# Altium schematic symbol library WE-HCIA.SchLib: 28 symbols
Pins are listed as number, name and electrical type; pins without a type are passive.

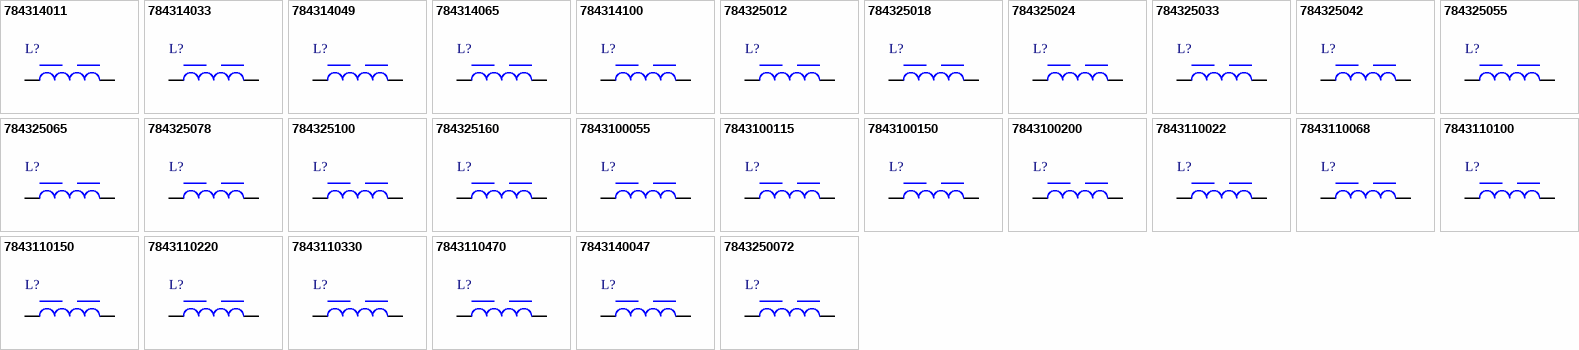
[diagram p0: symbols 784314011 to 7843250072]

## 784314011
designator L?, comment 1.1μH  (value not drawn)
WE-HCIA Flat Wire High Current Inductor, SMT, size 7050, 1.1μH, 19.6A, 3.47mΩ; Manufacturer Part Number: 784314011; Manufacturer: Wurth Elektronik; Case/Size Code: 7050; Inductance Tolerance: ±20%; Self Resonant Frequency: 147MHz; Saturation Current @ 30%: 15.2A; Category: Power Inductors; Match Code: WE-HCIA; ComponentLink1Description: Website Link; ComponentLink1URL: https://www.we-online.com/redexpert/article/784314011?ad; ComponentLink2Description: Datasheet Link; ComponentLink2URL: https://www.we-online.com/redexpert/spec/784314011?ad; Mount: Surface Mount; Min Operating Temperature: -55°C; Max Operating Temperature: 150°C; Packaging: Tape and Reel; Length: 6.9mm; Width: 6.9mm; Height: 4.8mm; Automotive: Yes; DC Resistance Max: 3.47mΩ; Inductance: 1.1μH; Performance Rated Current: 19.6A
footprint WE-HCIA_7050
simulation model 7050_784314011_1.1u
pins: 1, 2

## 784314033
designator L?, comment 3.3μH  (value not drawn)
WE-HCIA Flat Wire High Current Inductor, SMT, size 7050, 3.3μH, 10.9A, 9.62mΩ; Manufacturer Part Number: 784314033; Manufacturer: Wurth Elektronik; Case/Size Code: 7050; Inductance Tolerance: ±20%; Self Resonant Frequency: 68MHz; Saturation Current @ 30%: 8.7A; Category: Power Inductors; Match Code: WE-HCIA; ComponentLink1Description: Website Link; ComponentLink1URL: https://www.we-online.com/redexpert/article/784314033?ad; ComponentLink2Description: Datasheet Link; ComponentLink2URL: https://www.we-online.com/redexpert/spec/784314033?ad; Mount: Surface Mount; Min Operating Temperature: -55°C; Max Operating Temperature: 150°C; Packaging: Tape and Reel; Length: 6.9mm; Width: 6.9mm; Height: 4.8mm; Automotive: Yes; DC Resistance Max: 9.62mΩ; Inductance: 3.3μH; Performance Rated Current: 10.9A
footprint WE-HCIA_7050
simulation model 7050_784314033_3.3u
pins: 1, 2

## 784314049
designator L?, comment 4.9μH  (value not drawn)
WE-HCIA Flat Wire High Current Inductor, SMT, size 7050, 4.9μH, 8.3A, 15.85mΩ; Manufacturer Part Number: 784314049; Manufacturer: Wurth Elektronik; Case/Size Code: 7050; Inductance Tolerance: ±20%; Self Resonant Frequency: 64MHz; Saturation Current @ 30%: 7.2A; Category: Power Inductors; Match Code: WE-HCIA; ComponentLink1Description: Website Link; ComponentLink1URL: https://www.we-online.com/redexpert/article/784314049?ad; ComponentLink2Description: Datasheet Link; ComponentLink2URL: https://www.we-online.com/redexpert/spec/784314049?ad; Mount: Surface Mount; Min Operating Temperature: -55°C; Max Operating Temperature: 150°C; Packaging: Tape and Reel; Length: 6.9mm; Width: 6.9mm; Height: 4.8mm; Automotive: Yes; DC Resistance Max: 15.85mΩ; Inductance: 4.9μH; Performance Rated Current: 8.3A
footprint WE-HCIA_7050
simulation model 7050_784314049_4.9u
pins: 1, 2

## 784314065
designator L?, comment 6.5μH  (value not drawn)
WE-HCIA Flat Wire High Current Inductor, SMT, size 7050, 6.5μH, 6.6A, 23.65mΩ; Manufacturer Part Number: 784314065; Manufacturer: Wurth Elektronik; Case/Size Code: 7050; Inductance Tolerance: ±20%; Self Resonant Frequency: 50MHz; Saturation Current @ 30%: 6.4A; Category: Power Inductors; Match Code: WE-HCIA; ComponentLink1Description: Website Link; ComponentLink1URL: https://www.we-online.com/redexpert/article/784314065?ad; ComponentLink2Description: Datasheet Link; ComponentLink2URL: https://www.we-online.com/redexpert/spec/784314065?ad; Mount: Surface Mount; Min Operating Temperature: -55°C; Max Operating Temperature: 150°C; Packaging: Tape and Reel; Length: 6.9mm; Width: 6.9mm; Height: 4.8mm; Automotive: Yes; DC Resistance Max: 23.65mΩ; Inductance: 6.5μH; Performance Rated Current: 6.6A
footprint WE-HCIA_7050
simulation model 7050_784314065_6.5u
pins: 1, 2

## 784314100
designator L?, comment 10μH  (value not drawn)
WE-HCIA Flat Wire High Current Inductor, SMT, size 7050, 10μH, 5.4A, 33.72mΩ; Manufacturer Part Number: 784314100; Manufacturer: Wurth Elektronik; Case/Size Code: 7050; Inductance Tolerance: ±20%; Self Resonant Frequency: 41MHz; Saturation Current @ 30%: 4.85A; Category: Power Inductors; Match Code: WE-HCIA; ComponentLink1Description: Website Link; ComponentLink1URL: https://www.we-online.com/redexpert/article/784314100?ad; ComponentLink2Description: Datasheet Link; ComponentLink2URL: https://www.we-online.com/redexpert/spec/784314100?ad; Mount: Surface Mount; Min Operating Temperature: -55°C; Max Operating Temperature: 150°C; Packaging: Tape and Reel; Length: 6.9mm; Width: 6.9mm; Height: 4.8mm; Automotive: Yes; DC Resistance Max: 33.72mΩ; Inductance: 10μH; Performance Rated Current: 5.4A
footprint WE-HCIA_7050
simulation model 7050_784314100_10u
pins: 1, 2

## 784325012
designator L?, comment 1.2μH  (value not drawn)
WE-HCIA Flat Wire High Current Inductor, SMT, size 1050, 1.2μH, 32.6A, 2.04mΩ; Manufacturer Part Number: 784325012; Manufacturer: Wurth Elektronik; Case/Size Code: 1050; Inductance Tolerance: ±20%; Self Resonant Frequency: 76MHz; Saturation Current @ 30%: 30A; Category: Power Inductors; Match Code: WE-HCIA; ComponentLink1Description: Website Link; ComponentLink1URL: https://www.we-online.com/redexpert/article/784325012?ad; ComponentLink2Description: Datasheet Link; ComponentLink2URL: https://www.we-online.com/redexpert/spec/784325012?ad; Mount: Surface Mount; Min Operating Temperature: -55°C; Max Operating Temperature: 150°C; Packaging: Tape and Reel; Length: 10.2mm; Width: 10.2mm; Height: 4.7mm; Automotive: Yes; DC Resistance Max: 2.04mΩ; Inductance: 1.2μH; Performance Rated Current: 32.6A
footprint WE-HCIA_1050
simulation model 1050_784325012_1.2u
pins: 1, 2

## 784325018
designator L?, comment 1.8μH  (value not drawn)
WE-HCIA Flat Wire High Current Inductor, SMT, size 1050, 1.8μH, 22.1A, 3.3mΩ; Manufacturer Part Number: 784325018; Manufacturer: Wurth Elektronik; Case/Size Code: 1050; Inductance Tolerance: ±20%; Self Resonant Frequency: 60MHz; Saturation Current @ 30%: 25A; Category: Power Inductors; Match Code: WE-HCIA; ComponentLink1Description: Website Link; ComponentLink1URL: https://www.we-online.com/redexpert/article/784325018?ad; ComponentLink2Description: Datasheet Link; ComponentLink2URL: https://www.we-online.com/redexpert/spec/784325018?ad; Mount: Surface Mount; Min Operating Temperature: -55°C; Max Operating Temperature: 150°C; Packaging: Tape and Reel; Length: 10.2mm; Width: 10.2mm; Height: 4.7mm; Automotive: Yes; DC Resistance Max: 3.3mΩ; Inductance: 1.8μH; Performance Rated Current: 22.1A
footprint WE-HCIA_1050
simulation model 1050_784325018_1.8u
pins: 1, 2

## 784325024
designator L?, comment 2.4μH  (value not drawn)
WE-HCIA Flat Wire High Current Inductor, SMT, size 1050, 2.4μH, 18.7A, 5.4mΩ; Manufacturer Part Number: 784325024; Manufacturer: Wurth Elektronik; Case/Size Code: 1050; Inductance Tolerance: ±20%; Self Resonant Frequency: 55MHz; Saturation Current @ 30%: 20.7A; Category: Power Inductors; Match Code: WE-HCIA; ComponentLink1Description: Website Link; ComponentLink1URL: https://www.we-online.com/redexpert/article/784325024?ad; ComponentLink2Description: Datasheet Link; ComponentLink2URL: https://www.we-online.com/redexpert/spec/784325024?ad; Mount: Surface Mount; Min Operating Temperature: -55°C; Max Operating Temperature: 150°C; Packaging: Tape and Reel; Length: 10.2mm; Width: 10.2mm; Height: 4.7mm; Automotive: Yes; DC Resistance Max: 5.4mΩ; Inductance: 2.4μH; Performance Rated Current: 18.7A
footprint WE-HCIA_1050
simulation model 1050_784325024_2.4u
pins: 1, 2

## 784325033
designator L?, comment 3.3μH  (value not drawn)
WE-HCIA Flat Wire High Current Inductor, SMT, size 1050, 3.3μH, 16.6A, 5.75mΩ; Manufacturer Part Number: 784325033; Manufacturer: Wurth Elektronik; Case/Size Code: 1050; Inductance Tolerance: ±20%; Self Resonant Frequency: 41MHz; Saturation Current @ 30%: 18A; Category: Power Inductors; Match Code: WE-HCIA; ComponentLink1Description: Website Link; ComponentLink1URL: https://www.we-online.com/redexpert/article/784325033?ad; ComponentLink2Description: Datasheet Link; ComponentLink2URL: https://www.we-online.com/redexpert/spec/784325033?ad; Mount: Surface Mount; Min Operating Temperature: -55°C; Max Operating Temperature: 150°C; Packaging: Tape and Reel; Length: 10.2mm; Width: 10.2mm; Height: 4.7mm; Automotive: Yes; DC Resistance Max: 5.75mΩ; Inductance: 3.3μH; Performance Rated Current: 16.6A
footprint WE-HCIA_1050
simulation model 1050_784325033_3.3u
pins: 1, 2

## 784325042
designator L?, comment 4.2μH  (value not drawn)
WE-HCIA Flat Wire High Current Inductor, SMT, size 1050, 4.2μH, 15.4A, 7.8mΩ; Manufacturer Part Number: 784325042; Manufacturer: Wurth Elektronik; Case/Size Code: 1050; Inductance Tolerance: ±20%; Self Resonant Frequency: 36MHz; Saturation Current @ 30%: 15.7A; Category: Power Inductors; Match Code: WE-HCIA; ComponentLink1Description: Website Link; ComponentLink1URL: https://www.we-online.com/redexpert/article/784325042?ad; ComponentLink2Description: Datasheet Link; ComponentLink2URL: https://www.we-online.com/redexpert/spec/784325042?ad; Mount: Surface Mount; Min Operating Temperature: -55°C; Max Operating Temperature: 150°C; Packaging: Tape and Reel; Length: 10.2mm; Width: 10.2mm; Height: 4.7mm; Automotive: Yes; DC Resistance Max: 7.8mΩ; Inductance: 4.2μH; Performance Rated Current: 15.4A
footprint WE-HCIA_1050
simulation model 1050_784325042_4.2u
pins: 1, 2

## 784325055
designator L?, comment 5.2μH  (value not drawn)
WE-HCIA Flat Wire High Current Inductor, SMT, size 1050, 5.2μH, 12.1A, 9.45mΩ; Manufacturer Part Number: 784325055; Manufacturer: Wurth Elektronik; Case/Size Code: 1050; Inductance Tolerance: ±20%; Self Resonant Frequency: 31MHz; Saturation Current @ 30%: 14.3A; Category: Power Inductors; Match Code: WE-HCIA; ComponentLink1Description: Website Link; ComponentLink1URL: https://www.we-online.com/redexpert/article/784325055?ad; ComponentLink2Description: Datasheet Link; ComponentLink2URL: https://www.we-online.com/redexpert/spec/784325055?ad; Mount: Surface Mount; Min Operating Temperature: -55°C; Max Operating Temperature: 150°C; Packaging: Tape and Reel; Length: 10.2mm; Width: 10.2mm; Height: 4.7mm; Automotive: Yes; DC Resistance Max: 9.45mΩ; Inductance: 5.2μH; Performance Rated Current: 12.1A
footprint WE-HCIA_1050
simulation model 1050_784325055_5.2u
pins: 1, 2

## 784325065
designator L?, comment 6.5μH  (value not drawn)
WE-HCIA Flat Wire High Current Inductor, SMT, size 1050, 6.5μH, 11A, 11.55mΩ; Manufacturer Part Number: 784325065; Manufacturer: Wurth Elektronik; Case/Size Code: 1050; Inductance Tolerance: ±20%; Self Resonant Frequency: 27MHz; Saturation Current @ 30%: 13A; Category: Power Inductors; Match Code: WE-HCIA; ComponentLink1Description: Website Link; ComponentLink1URL: https://www.we-online.com/redexpert/article/784325065?ad; ComponentLink2Description: Datasheet Link; ComponentLink2URL: https://www.we-online.com/redexpert/spec/784325065?ad; Mount: Surface Mount; Min Operating Temperature: -55°C; Max Operating Temperature: 150°C; Packaging: Tape and Reel; Length: 10.2mm; Width: 10.2mm; Height: 4.7mm; Automotive: Yes; DC Resistance Max: 11.55mΩ; Inductance: 6.5μH; Performance Rated Current: 11A
footprint WE-HCIA_1050
simulation model 1050_784325065_6.5u
pins: 1, 2

## 784325078
designator L?, comment 7.8μH  (value not drawn)
WE-HCIA Flat Wire High Current Inductor, SMT, size 1050, 7.8μH, 10.7A, 14.4mΩ; Manufacturer Part Number: 784325078; Manufacturer: Wurth Elektronik; Case/Size Code: 1050; Inductance Tolerance: ±20%; Self Resonant Frequency: 23MHz; Saturation Current @ 30%: 12A; Category: Power Inductors; Match Code: WE-HCIA; ComponentLink1Description: Website Link; ComponentLink1URL: https://www.we-online.com/redexpert/article/784325078?ad; ComponentLink2Description: Datasheet Link; ComponentLink2URL: https://www.we-online.com/redexpert/spec/784325078?ad; Mount: Surface Mount; Min Operating Temperature: -55°C; Max Operating Temperature: 150°C; Packaging: Tape and Reel; Length: 10.2mm; Width: 10.2mm; Height: 4.7mm; Automotive: Yes; DC Resistance Max: 14.4mΩ; Inductance: 7.8μH; Performance Rated Current: 10.7A
footprint WE-HCIA_1050
simulation model 1050_784325078_7.8u
pins: 1, 2

## 784325100
designator L?, comment 10μH  (value not drawn)
WE-HCIA Flat Wire High Current Inductor, SMT, size 1050, 10μH, 9.6A, 23.1mΩ; Manufacturer Part Number: 784325100; Manufacturer: Wurth Elektronik; Case/Size Code: 1050; Inductance Tolerance: ±20%; Self Resonant Frequency: 21MHz; Saturation Current @ 30%: 10.3A; Category: Power Inductors; Match Code: WE-HCIA; ComponentLink1Description: Website Link; ComponentLink1URL: https://www.we-online.com/redexpert/article/784325100?ad; ComponentLink2Description: Datasheet Link; ComponentLink2URL: https://www.we-online.com/redexpert/spec/784325100?ad; Mount: Surface Mount; Min Operating Temperature: -55°C; Max Operating Temperature: 150°C; Packaging: Tape and Reel; Length: 10.2mm; Width: 10.2mm; Height: 4.7mm; Automotive: Yes; DC Resistance Max: 23.1mΩ; Inductance: 10μH; Performance Rated Current: 9.6A
footprint WE-HCIA_1050
simulation model 1050_784325100_10u
pins: 1, 2

## 784325160
designator L?, comment 16.7μH  (value not drawn)
WE-HCIA Flat Wire High Current Inductor, SMT, size 1050, 16.7μH, 6.3A, 38mΩ; Manufacturer Part Number: 784325160; Manufacturer: Wurth Elektronik; Case/Size Code: 1050; Inductance Tolerance: ±20%; Self Resonant Frequency: 16MHz; Saturation Current @ 30%: 7.8A; Category: Power Inductors; Match Code: WE-HCIA; ComponentLink1Description: Website Link; ComponentLink1URL: https://www.we-online.com/redexpert/article/784325160?ad; ComponentLink2Description: Datasheet Link; ComponentLink2URL: https://www.we-online.com/redexpert/spec/784325160?ad; Mount: Surface Mount; Min Operating Temperature: -55°C; Max Operating Temperature: 150°C; Packaging: Tape and Reel; Length: 10.2mm; Width: 10.2mm; Height: 4.7mm; Automotive: Yes; DC Resistance Max: 38mΩ; Inductance: 16.7μH; Performance Rated Current: 6.3A
footprint WE-HCIA_1050
simulation model 1050_784325160_16.7u
pins: 1, 2

## 7843100055
designator L?, comment 0.52μH  (value not drawn)
WE-HCIA Flat Wire High Current Inductor, SMT, size 7030, 0.52μH, 19.2A, 4.07mΩ; Manufacturer Part Number: 7843100055; Manufacturer: Wurth Elektronik; Case/Size Code: 7030; Inductance Tolerance: ±20%; Self Resonant Frequency: 189MHz; Saturation Current @ 30%: 27.7A; Category: Power Inductors; Match Code: WE-HCIA; ComponentLink1Description: Website Link; ComponentLink1URL: https://www.we-online.com/redexpert/article/7843100055?ad; ComponentLink2Description: Datasheet Link; ComponentLink2URL: https://www.we-online.com/redexpert/spec/7843100055?ad; Mount: Surface Mount; Min Operating Temperature: -55°C; Max Operating Temperature: 150°C; Packaging: Tape and Reel; Length: 6.9mm; Width: 6.9mm; Height: 3mm; Automotive: Yes; DC Resistance Max: 4.07mΩ; Inductance: 0.52μH; Performance Rated Current: 19.2A
footprint WE-HCIA_7030
simulation model 7030_7843100055_0.52u
pins: 1, 2

## 7843100115
designator L?, comment 1.15μH  (value not drawn)
WE-HCIA Flat Wire High Current Inductor, SMT, size 7030, 1.15μH, 11.8A, 9.46mΩ; Manufacturer Part Number: 7843100115; Manufacturer: Wurth Elektronik; Case/Size Code: 7030; Inductance Tolerance: ±20%; Self Resonant Frequency: 97MHz; Saturation Current @ 30%: 18.6A; Category: Power Inductors; Match Code: WE-HCIA; ComponentLink1Description: Website Link; ComponentLink1URL: https://www.we-online.com/redexpert/article/7843100115?ad; ComponentLink2Description: Datasheet Link; ComponentLink2URL: https://www.we-online.com/redexpert/spec/7843100115?ad; Mount: Surface Mount; Min Operating Temperature: -55°C; Max Operating Temperature: 150°C; Packaging: Tape and Reel; Length: 6.9mm; Width: 6.9mm; Height: 3mm; Automotive: Yes; DC Resistance Max: 9.46mΩ; Inductance: 1.15μH; Performance Rated Current: 11.8A
footprint WE-HCIA_7030
simulation model 7030_7843100115_1.15u
pins: 1, 2

## 7843100150
designator L?, comment 1.5μH  (value not drawn)
WE-HCIA Flat Wire High Current Inductor, SMT, size 7030, 1.5μH, 9.6A, 13.97mΩ; Manufacturer Part Number: 7843100150; Manufacturer: Wurth Elektronik; Case/Size Code: 7030; Inductance Tolerance: ±20%; Self Resonant Frequency: 91MHz; Saturation Current @ 30%: 17.9A; Category: Power Inductors; Match Code: WE-HCIA; ComponentLink1Description: Website Link; ComponentLink1URL: https://www.we-online.com/redexpert/article/7843100150?ad; ComponentLink2Description: Datasheet Link; ComponentLink2URL: https://www.we-online.com/redexpert/spec/7843100150?ad; Mount: Surface Mount; Min Operating Temperature: -55°C; Max Operating Temperature: 150°C; Packaging: Tape and Reel; Length: 6.9mm; Width: 6.9mm; Height: 3mm; Automotive: Yes; DC Resistance Max: 13.97mΩ; Inductance: 1.5μH; Performance Rated Current: 9.6A
footprint WE-HCIA_7030
simulation model 7030_7843100150_1.5u
pins: 1, 2

## 7843100200
designator L?, comment 2μH  (value not drawn)
WE-HCIA Flat Wire High Current Inductor, SMT, size 7030, 2μH, 8.7A, 15.62mΩ; Manufacturer Part Number: 7843100200; Manufacturer: Wurth Elektronik; Case/Size Code: 7030; Inductance Tolerance: ±20%; Self Resonant Frequency: 88MHz; Saturation Current @ 30%: 10.5A; Category: Power Inductors; Match Code: WE-HCIA; ComponentLink1Description: Website Link; ComponentLink1URL: https://www.we-online.com/redexpert/article/7843100200?ad; ComponentLink2Description: Datasheet Link; ComponentLink2URL: https://www.we-online.com/redexpert/spec/7843100200?ad; Mount: Surface Mount; Min Operating Temperature: -55°C; Max Operating Temperature: 150°C; Packaging: Tape and Reel; Length: 6.9mm; Width: 6.9mm; Height: 3mm; Automotive: Yes; DC Resistance Max: 15.62mΩ; Inductance: 2μH; Performance Rated Current: 8.7A
footprint WE-HCIA_7030
simulation model 7030_7843100200_2u
pins: 1, 2

## 7843110022
designator L?, comment 0.22μH  (value not drawn)
WE-HCIA Flat Wire High Current Inductor, SMT, size 7040, 0.22μH, 36.4A, 1.21mΩ; Manufacturer Part Number: 7843110022; Manufacturer: Wurth Elektronik; Case/Size Code: 7040; Inductance Tolerance: ±20%; Self Resonant Frequency: 366MHz; Saturation Current @ 30%: 43.9A; Category: Power Inductors; Match Code: WE-HCIA; ComponentLink1Description: Website Link; ComponentLink1URL: https://www.we-online.com/redexpert/article/7843110022?ad; ComponentLink2Description: Datasheet Link; ComponentLink2URL: https://www.we-online.com/redexpert/spec/7843110022?ad; Mount: Surface Mount; Min Operating Temperature: -55°C; Max Operating Temperature: 150°C; Packaging: Tape and Reel; Length: 6.9mm; Width: 6.9mm; Height: 3.8mm; Automotive: Yes; DC Resistance Max: 1.21mΩ; Inductance: 0.22μH; Performance Rated Current: 36.4A
footprint WE-HCIA_7040
simulation model 7040_7843110022_0.22u
pins: 1, 2

## 7843110068
designator L?, comment 0.68μH  (value not drawn)
WE-HCIA Flat Wire High Current Inductor, SMT, size 7040, 0.68μH, 20.9A, 3.41mΩ; Manufacturer Part Number: 7843110068; Manufacturer: Wurth Elektronik; Case/Size Code: 7040; Inductance Tolerance: ±20%; Self Resonant Frequency: 171MHz; Saturation Current @ 30%: 24.6A; Category: Power Inductors; Match Code: WE-HCIA; ComponentLink1Description: Website Link; ComponentLink1URL: https://www.we-online.com/redexpert/article/7843110068?ad; ComponentLink2Description: Datasheet Link; ComponentLink2URL: https://www.we-online.com/redexpert/spec/7843110068?ad; Mount: Surface Mount; Min Operating Temperature: -55°C; Max Operating Temperature: 150°C; Packaging: Tape and Reel; Length: 6.9mm; Width: 6.9mm; Height: 3.8mm; Automotive: Yes; DC Resistance Max: 3.41mΩ; Inductance: 0.68μH; Performance Rated Current: 20.9A
footprint WE-HCIA_7040
simulation model 7040_7843110068_0.68u
pins: 1, 2

## 7843110100
designator L?, comment 1μH  (value not drawn)
WE-HCIA Flat Wire High Current Inductor, SMT, size 7040, 1μH, 16.8A, 5.06mΩ; Manufacturer Part Number: 7843110100; Manufacturer: Wurth Elektronik; Case/Size Code: 7040; Inductance Tolerance: ±20%; Self Resonant Frequency: 134MHz; Saturation Current @ 30%: 20.2A; Category: Power Inductors; Match Code: WE-HCIA; ComponentLink1Description: Website Link; ComponentLink1URL: https://www.we-online.com/redexpert/article/7843110100?ad; ComponentLink2Description: Datasheet Link; ComponentLink2URL: https://www.we-online.com/redexpert/spec/7843110100?ad; Mount: Surface Mount; Min Operating Temperature: -55°C; Max Operating Temperature: 150°C; Packaging: Tape and Reel; Length: 6.9mm; Width: 6.9mm; Height: 3.8mm; Automotive: Yes; DC Resistance Max: 5.06mΩ; Inductance: 1μH; Performance Rated Current: 16.8A
footprint WE-HCIA_7040
simulation model 7040_7843110100_1u
pins: 1, 2

## 7843110150
designator L?, comment 1.5μH  (value not drawn)
WE-HCIA Flat Wire High Current Inductor, SMT, size 7040, 1.5μH, 13.8A, 7.26mΩ; Manufacturer Part Number: 7843110150; Manufacturer: Wurth Elektronik; Case/Size Code: 7040; Inductance Tolerance: ±20%; Self Resonant Frequency: 94MHz; Saturation Current @ 30%: 15.6A; Category: Power Inductors; Match Code: WE-HCIA; ComponentLink1Description: Website Link; ComponentLink1URL: https://www.we-online.com/redexpert/article/7843110150?ad; ComponentLink2Description: Datasheet Link; ComponentLink2URL: https://www.we-online.com/redexpert/spec/7843110150?ad; Mount: Surface Mount; Min Operating Temperature: -55°C; Max Operating Temperature: 150°C; Packaging: Tape and Reel; Length: 6.9mm; Width: 6.9mm; Height: 3.8mm; Automotive: Yes; DC Resistance Max: 7.26mΩ; Inductance: 1.5μH; Performance Rated Current: 13.8A
footprint WE-HCIA_7040
simulation model 7040_7843110150_1.5u
pins: 1, 2

## 7843110220
designator L?, comment 2.2μH  (value not drawn)
WE-HCIA Flat Wire High Current Inductor, SMT, size 7040, 2.2μH, 10.2A, 12.54mΩ; Manufacturer Part Number: 7843110220; Manufacturer: Wurth Elektronik; Case/Size Code: 7040; Inductance Tolerance: ±20%; Self Resonant Frequency: 76MHz; Saturation Current @ 30%: 13.4A; Category: Power Inductors; Match Code: WE-HCIA; ComponentLink1Description: Website Link; ComponentLink1URL: https://www.we-online.com/redexpert/article/7843110220?ad; ComponentLink2Description: Datasheet Link; ComponentLink2URL: https://www.we-online.com/redexpert/spec/7843110220?ad; Mount: Surface Mount; Min Operating Temperature: -55°C; Max Operating Temperature: 150°C; Packaging: Tape and Reel; Length: 6.9mm; Width: 6.9mm; Height: 3.8mm; Automotive: Yes; DC Resistance Max: 12.54mΩ; Inductance: 2.2μH; Performance Rated Current: 10.2A
footprint WE-HCIA_7040
simulation model 7040_7843110220_2.2u
pins: 1, 2

## 7843110330
designator L?, comment 3.3μH  (value not drawn)
WE-HCIA Flat Wire High Current Inductor, SMT, size 7040, 3.3μH, 8.1A, 18.92mΩ; Manufacturer Part Number: 7843110330; Manufacturer: Wurth Elektronik; Case/Size Code: 7040; Inductance Tolerance: ±20%; Self Resonant Frequency: 59MHz; Saturation Current @ 30%: 11A; Category: Power Inductors; Match Code: WE-HCIA; ComponentLink1Description: Website Link; ComponentLink1URL: https://www.we-online.com/redexpert/article/7843110330?ad; ComponentLink2Description: Datasheet Link; ComponentLink2URL: https://www.we-online.com/redexpert/spec/7843110330?ad; Mount: Surface Mount; Min Operating Temperature: -55°C; Max Operating Temperature: 150°C; Packaging: Tape and Reel; Length: 6.9mm; Width: 6.9mm; Height: 3.8mm; Automotive: Yes; DC Resistance Max: 18.92mΩ; Inductance: 3.3μH; Performance Rated Current: 8.1A
footprint WE-HCIA_7040
simulation model 7040_7843110330_3.3u
pins: 1, 2

## 7843110470
designator L?, comment 4.7μH  (value not drawn)
WE-HCIA Flat Wire High Current Inductor, SMT, size 7040, 4.7μH, 7.8A, 21.45mΩ; Manufacturer Part Number: 7843110470; Manufacturer: Wurth Elektronik; Case/Size Code: 7040; Inductance Tolerance: ±20%; Self Resonant Frequency: 50MHz; Saturation Current @ 30%: 9.1A; Category: Power Inductors; Match Code: WE-HCIA; ComponentLink1Description: Website Link; ComponentLink1URL: https://www.we-online.com/redexpert/article/7843110470?ad; ComponentLink2Description: Datasheet Link; ComponentLink2URL: https://www.we-online.com/redexpert/spec/7843110470?ad; Mount: Surface Mount; Min Operating Temperature: -55°C; Max Operating Temperature: 150°C; Packaging: Tape and Reel; Length: 6.9mm; Width: 6.9mm; Height: 3.8mm; Automotive: Yes; DC Resistance Max: 21.45mΩ; Inductance: 4.7μH; Performance Rated Current: 7.8A
footprint WE-HCIA_7040
simulation model 7040_7843110470_4.7u
pins: 1, 2

## 7843140047
designator L?, comment 0.47μH  (value not drawn)
WE-HCIA Flat Wire High Current Inductor, SMT, size 7050, 0.47μH, 32A, 1.65mΩ; Manufacturer Part Number: 7843140047; Manufacturer: Wurth Elektronik; Case/Size Code: 7050; Inductance Tolerance: ±20%; Self Resonant Frequency: 292MHz; Saturation Current @ 30%: 25A; Category: Power Inductors; Match Code: WE-HCIA; ComponentLink1Description: Website Link; ComponentLink1URL: https://www.we-online.com/redexpert/article/7843140047?ad; ComponentLink2Description: Datasheet Link; ComponentLink2URL: https://www.we-online.com/redexpert/spec/7843140047?ad; Mount: Surface Mount; Min Operating Temperature: -55°C; Max Operating Temperature: 150°C; Packaging: Tape and Reel; Length: 6.9mm; Width: 6.9mm; Height: 4.8mm; Automotive: Yes; DC Resistance Max: 1.65mΩ; Inductance: 0.47μH; Performance Rated Current: 32A
footprint WE-HCIA_7050
simulation model 7050_7843140047_0.47u
pins: 1, 2

## 7843250072
designator L?, comment 0.72μH  (value not drawn)
WE-HCIA Flat Wire High Current Inductor, SMT, size 1050, 0.72μH, 37.8A, 1.38mΩ; Manufacturer Part Number: 7843250072; Manufacturer: Wurth Elektronik; Case/Size Code: 1050; Inductance Tolerance: ±20%; Self Resonant Frequency: 103MHz; Saturation Current @ 30%: 36.1A; Category: Power Inductors; Match Code: WE-HCIA; ComponentLink1Description: Website Link; ComponentLink1URL: https://www.we-online.com/redexpert/article/7843250072?ad; ComponentLink2Description: Datasheet Link; ComponentLink2URL: https://www.we-online.com/redexpert/spec/7843250072?ad; Mount: Surface Mount; Min Operating Temperature: -55°C; Max Operating Temperature: 150°C; Packaging: Tape and Reel; Length: 10.2mm; Width: 10.2mm; Height: 4.7mm; Automotive: Yes; DC Resistance Max: 1.38mΩ; Inductance: 0.72μH; Performance Rated Current: 37.8A
footprint WE-HCIA_1050
simulation model 1050_7843250072_0.72u
pins: 1, 2